# Altium footprint library JST SH Connector.PcbLib: 1 footprints
Each footprint in its own frame and in the unit in brackets; x right, y up, seen from the top. Pads: shape width x height; smd on the part's side, far side on the other; paste and mask are expansions set on the pad; w line width, h text height; cw(c..) or ccw(c..) is an arc to the next point about the centre after c.
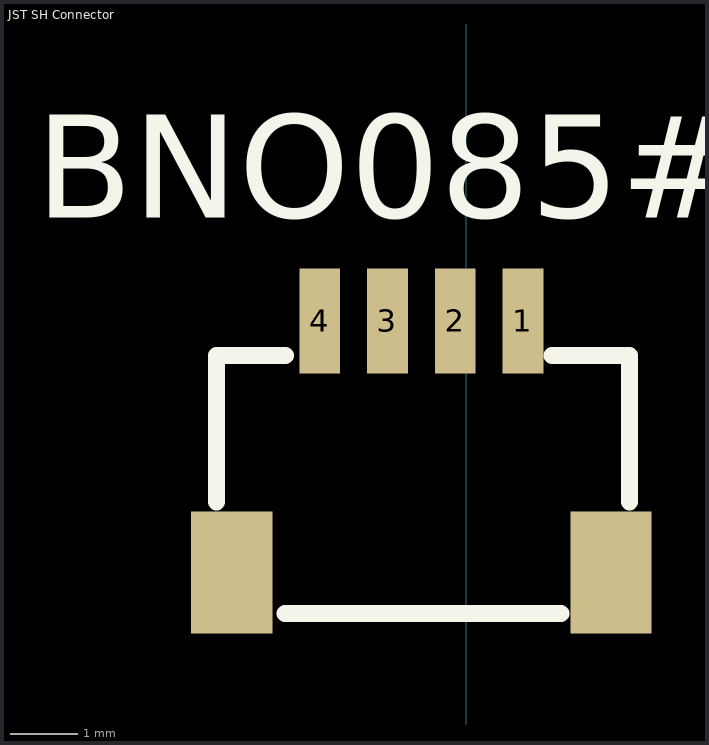
[diagram p0: the footprint, top view; thin cyan lines are the x and y axes]

## JST SH Connector [mil]
pads (6):
  rect 23.6x61 smd: 1(33.11,315) 2(-6.26,315) 3(-45.63,315) 4(-85,315)
  rect 47.2x71 smd: ""(-136.2,168.9) ""(84.31,168.9)
Top Overlay:
  lines w10: -145,210 -145,295 -105,295 ; -105,145 55,145 ; 50,295 95,295 95,210
  text "BNO085#2" at -250,375 h60
3D body "SM4B-SRSS-TB.step": height 114.17, standoff -1.97, extent -146.22,137.57 90,332.43